# Altium schematic symbol library AD9434-500.SchLib: 1 symbol
Pins are listed as number, name and electrical type; pins without a type are passive.

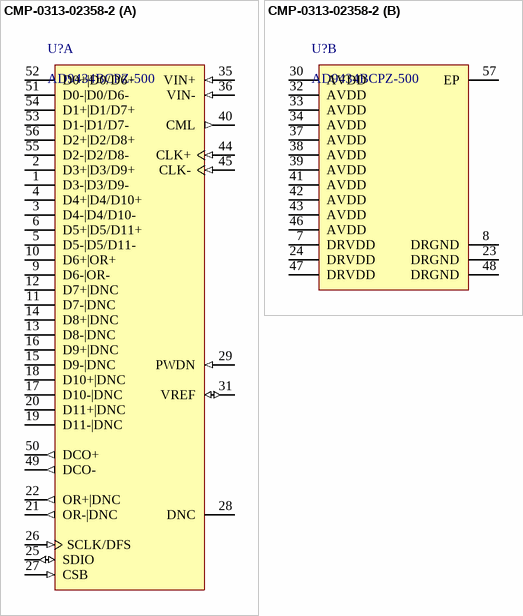
[diagram p0: symbol CMP-0313-02358-2]

## CMP-0313-02358-2
designator U?, comment AD9434BCPZ-500
Single 12-Bit Analog-to-Digital Converter with Parallel Interface, 1.8 V, 500MSPS, -40 to +85 degC, CP-56-5, Pb-Free, Tray; Generic Part Number: AD9434-500; Manufacturer: Analog Devices; Throughput Rate (SPS): 500M; Resolution (Bits): 12; Interface: Par; Channels: 1; PackageDescription: 56-Lead Lead Frame Chip Scale Package [LFCSP_VQ] 8 x 8 mm Body, Very Thin Quad; PartNumber: AD9434BCPZ-500; Packing: Tray; PackageReference: CP-56-5; Mounting Technology: Surface Mount; ComponentLink1URL: http://www.analog.com/en/index.html; ComponentLink3Description: Package Specification; ComponentLink4URL: http://www.analog.com/en/analog-to-digital-converters/ad-converters/ad9434/products/product.html; ComponentLink2Description: Datasheet; RoHS: Y; ComponentLink3URL: http://www.analog.com/static/imported-files/packages/PKG_PDF/LFCSP(CP)/CP-56/CP_56_5.pdf; ComponentLink2URL: http://www.analog.com/static/imported-files/data_sheets/AD9434.pdf; ComponentLink4Description: Product URL; Code_JEDEC: MO-220-WLLD-2; ComponentLink1Description: Manufacturer URL; PackageVersion: 072709-A; DatasheetVersion: Rev.A
footprint CP-56-5_L (QFN, 56-Leads, Body 8x8mm, Pitch 0.5mm, Thermal Pad 5x5mm, IPC High Density)
part A pins: 1 D3-|D3/D9- (hiz) "D3/D9 Complement Output.", 2 D3+|D3/D9+ (hiz) "D3/D9 True Output.", 3 D4-|D4/D10- (hiz) "D4/D10 Complement Output.", 4 D4+|D4/D10+ (hiz) "D4/D10 True Output.", 5 D5-|D5/D11- (hiz) "D5/D11 Complement Output (MSB).", 6 D5+|D5/D11+ (hiz) "D5/D11 True Output (MSB).", 9 D6-|OR- (hiz), 10 D6+|OR+ (hiz), 11 D7-|DNC (hiz), 12 D7+|DNC (hiz), 13 D8-|DNC (hiz), 14 D8+|DNC (hiz), 15 D9-|DNC (hiz), 16 D9+|DNC (hiz), 17 D10-|DNC (hiz), 18 D10+|DNC (hiz), 19 D11-|DNC (hiz), 20 D11+|DNC (hiz), 21 OR-|DNC (out), 22 OR+|DNC (out), 25 SDIO (io) "Serial Port Interface (SPI) Data Input/Output (Serial Port Mode).", 26 SCLK/DFS (in) "Serial Port Interface Clock (Serial Port Mode)/Data Format Select (External Pin Mode).", 27 CSB (in) "Serial Port Chip Select (Active Low).", 28 DNC "Do Not Connect. Do not connect to this pin. This pin should be left floating.", 29 PWDN (in) "Chip Power-Down.", 31 VREF (io) "Voltage Reference Internal/Input/Output. Nominally 0.75 V.", 35 VIN+ (in) "Analog Input--True.", 36 VIN- (in) "Analog Input--Complement.", 40 CML (out) "Common-Mode Output. Enabled through the SPI, this pin provides a reference for the optimized internal bias voltage for VIN+/VIN-.", 44 CLK+ (in) "Clock Input--True.", 45 CLK- (in) "Clock Input--Complement.", 49 DCO- (out) "Data Clock Output--Complement.", 50 DCO+ (out) "Data Clock Output--True.", 51 D0-|D0/D6- (hiz) "D0/D6 Complement Output (LSB).", 52 D0+|D0/D6+ (hiz) "D0/D6 True Output (LSB).", 53 D1-|D1/D7- (hiz) "D1/D7 Complement Output.", 54 D1+|D1/D7+ (hiz) "D1/D7 True Output.", 55 D2-|D2/D8- (hiz) "D2/D8 Complement Output.", 56 D2+|D2/D8+ (hiz) "D2/D8 True Output."
part B pins: 7 DRVDD (power) "1.8 V Digital Output Supply.", 8 DRGND (power) "Digital Output Ground.", 23 DRGND (power) "Digital Output Ground.", 24 DRVDD (power) "1.8 V Digital Output Supply.", 30 AVDD (power) "1.8 V Analog Supply.", 32 AVDD (power) "1.8 V Analog Supply.", 33 AVDD (power) "1.8 V Analog Supply.", 34 AVDD (power) "1.8 V Analog Supply.", 37 AVDD (power) "1.8 V Analog Supply.", 38 AVDD (power) "1.8 V Analog Supply.", 39 AVDD (power) "1.8 V Analog Supply.", 41 AVDD (power) "1.8 V Analog Supply.", 42 AVDD (power) "1.8 V Analog Supply.", 43 AVDD (power) "1.8 V Analog Supply.", 46 AVDD (power) "1.8 V Analog Supply.", 47 DRVDD (power) "1.8 V Digital Output Supply.", 48 DRGND (power) "Digital Output Ground.", 57 EP (power) "Analog Ground. The exposed paddle must be soldered to a ground plane."